# Altium schematic symbol library HDR_1X7_A_P2.SchLib: 1 symbol
Pins are listed as number, name and electrical type; pins without a type are passive.

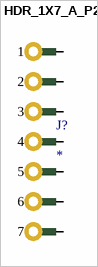
[diagram p0: symbol HDR_1X7_A_P2]

## HDR_1X7_A_P2
designator J?
pins: 1, 2, 3, 4, 5, 6, 7